# EAGLE library part HEADER-FE-3X4 (library TEABOX-LIB)
FEMALE HEADER
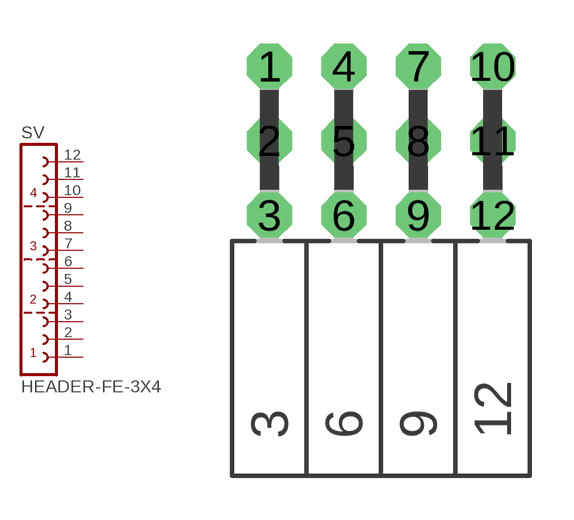
[diagram p13: symbol with the pads of HEADER-FE-3X4-RA; footprint HEADER-FE-3X4-RA]

Designator prefix SV

## HEADER-FE-3X4  [HEADER-FE-3X4-RA]
1  1  pas
2  2  pas
3  3  pas
4  4  pas
5  5  pas
6  6  pas
7  7  pas
8  8  pas
9  9  pas
10  10  pas
11  11  pas
12  12  pas

## Footprint HEADER-FE-3X4-RA (pad centres in mm)
FEMALE HEADER
drill 1.016 octagon: 1 -5.08,3.81; 2 -5.08,1.27; 3 -5.08,-1.27; 4 -2.54,3.81; 5 -2.54,1.27; 6 -2.54,-1.27; 7 0,3.81; 8 0,1.27; 9 0,-1.27; 10 2.54,3.81; 11 2.54,1.27; 12 2.54,-1.27